# EAGLE library part EADIPS082 (library Display - LCD 2 x 8 EADIPS082)
Name des Bauteiles: Display für den Zukunftstag 2013 Daten: 2 x 8 Zeichen , Beleuchtung = Gelb/Grün , Anzige = Blau/Neutral , Versorgung = +2,7 - 5 VDC Artikelnummer:Gz Datenblatt:
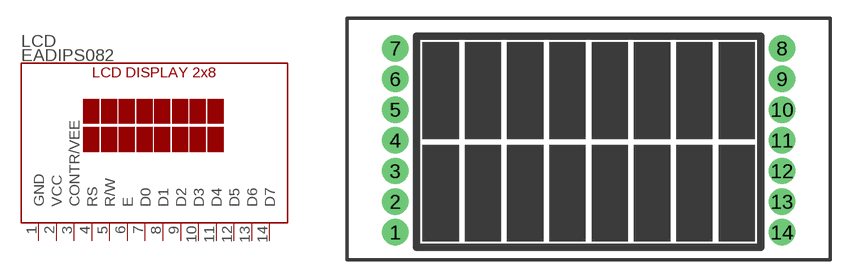
[diagram p0: symbol with the pads of EADIPS082; footprint EADIPS082]

Designator prefix LCD

## EADIPS082THT  [EADIPS082]
1  GND  pwr
2  VCC  pwr
3  CONTR/VEE  pwr
4  RS  in
5  R/W  in
6  E  in
7  D0  in
8  D1  in
9  D2  in
10  D3  in
11  D4  in
12  D5  in
13  D6  in
14  D7  in

## Footprint EADIPS082 (pad centres in mm)
drill 0.8 pad 2.184: 1 -16,-8.24; 2 -16,-5.7; 3 -16,-3.16; 4 -16,-0.62; 5 -16,1.92; 6 -16,4.46; 7 -16,7; 8 16,7; 9 16,4.46; 10 16,1.92; 11 16,-0.62; 12 16,-3.16; 13 16,-5.7; 14 16,-8.24